# EAGLE library part PGA116 (library Zoli2_2015-01-28)
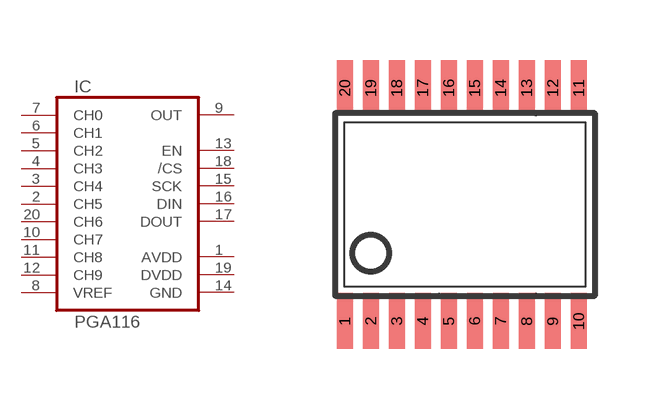
[diagram p50: symbol with the pads of TSSOP20; footprint TSSOP20]

Designator prefix IC

## PGA116AIPWR  [TSSOP20]
1  AVDD  pwr
2  CH5  in
3  CH4  in
4  CH3  in
5  CH2  in
6  CH1  in
7  CH0  in
8  VREF  in
9  OUT  out
10  CH7  in
11  CH8  in
12  CH9  in
13  EN  in
14  GND  pwr
15  SCK  in
16  DIN  in
17  DOUT  out
18  /CS  in
19  DVDD  pwr
20  CH6  in

## Footprint TSSOP20 (pad centres in mm)
smd 0.4 x 1.4: 1 -3.545,-2.918; 2 -2.895,-2.918; 3 -2.245,-2.918; 4 -1.595,-2.918; 5 -0.945,-2.918; 6 -0.295,-2.918; 7 0.355,-2.918; 8 1.008,-2.918; 9 1.658,-2.918; 10 2.308,-2.918; 11 2.308,2.918; 12 1.658,2.918; 13 1.005,2.918; 14 0.355,2.918; 15 -0.295,2.918; 16 -0.945,2.918; 17 -1.595,2.918; 18 -2.245,2.918; 19 -2.895,2.918; 20 -3.545,2.918